# Altium schematic symbol library Project_Lib.SchLib: 1 symbol
Pins are listed as number, name and electrical type; pins without a type are passive.

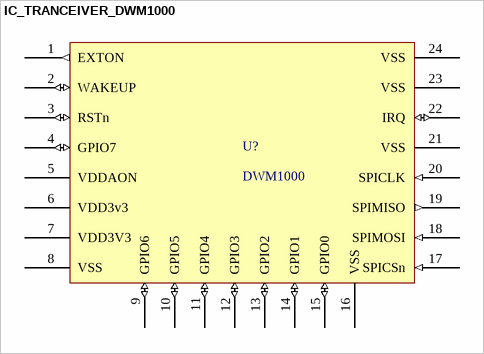
[diagram p0: symbol IC_TRANCEIVER_DWM1000]

## IC_TRANCEIVER_DWM1000
designator U?, comment DWM1000
ComponentLink1Description: Datasheet; ComponentLink1URL: https://www.decawave.com/sites/default/files/resources/DWM1000-Datasheet-V1.6.pdf; ComponentLink2Description: Digikey; ComponentLink2URL: https://www.digikey.com/product-detail/en/decawave-limited/DWM1000/1479-1002-1-ND/4805335; ComponentLink3Description: User manual; ComponentLink3URL: https://www.decawave.com/wp-content/uploads/2018/09/dw100020user20manual_0.pdf
footprint DWM1000
pins: 1 EXTON (out), 2 WAKEUP (io), 3 RSTn (io), 4 GPIO7 (io), 5 VDDAON (power), 6 VDD3v3 (power), 7 VDD3V3 (power), 8 VSS (power), 9 GPIO6 (io), 10 GPIO5 (io), 11 GPIO4 (io), 12 GPIO3 (io), 13 GPIO2 (io), 14 GPIO1 (io), 15 GPIO0 (io), 16 VSS (power), 17 SPICSn (in), 18 SPIMOSI (in), 19 SPIMISO (out), 20 SPICLK (in), 21 VSS (power), 22 IRQ (io), 23 VSS (power), 24 VSS (power)